# Altium schematic symbol library TPL7407LAQPWRQ1.SchLib: 1 symbol
Pins are listed as number, name and electrical type; pins without a type are passive.

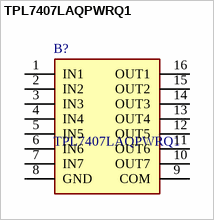
[diagram p0: symbol TPL7407LAQPWRQ1]

## TPL7407LAQPWRQ1
designator B?
30-V, 7-Channel NMOS Array Automotive Low-Side Driver; Manufacturer_Name: Texas Instruments; Geometry.Height: 1.2mm; Mouser Part Number: 595-TPL7407LAQPWRQ1; Mouser Price/Stock: https://www.mouser.co.uk/ProductDetail/Texas-Instruments/TPL7407LAQPWRQ1?qs=gTYE2QTfZfQmMwRSVe6tfQ%3D%3D; Manufacturer_Part_Number: TPL7407LAQPWRQ1; Datasheet Link: http://www.ti.com/lit/gpn/tpl7407la-q1
footprint SOP65P640X120-16N
pins: 1 IN1, 2 IN2, 3 IN3, 4 IN4, 5 IN5, 6 IN6, 7 IN7, 8 GND, 9 COM, 10 OUT7, 11 OUT6, 12 OUT5, 13 OUT4, 14 OUT3, 15 OUT2, 16 OUT1